# Altium footprint library C_1206.PcbLib: 1 footprints
Each footprint in its own frame and in the unit in brackets; x right, y up, seen from the top. Pads: shape width x height; smd on the part's side, far side on the other; paste and mask are expansions set on the pad; w line width, h text height; cw(c..) or ccw(c..) is an arc to the next point about the centre after c.
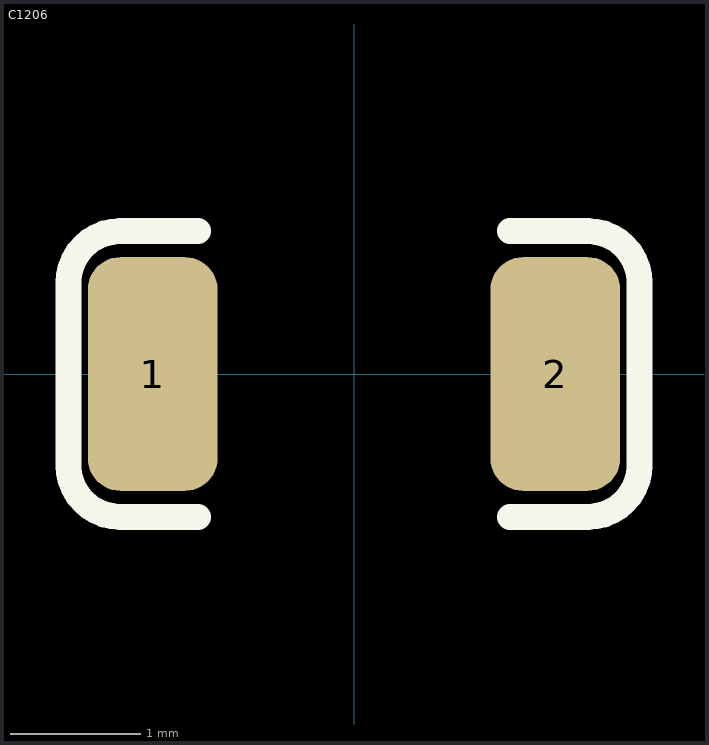
[diagram p0: the footprint, top view; thin cyan lines are the x and y axes]

## C1206 [mm]
pads (2):
  rrect50% 1x1.8 smd: 1(-1.55,0) 2(1.55,0)
Top Overlay:
  lines w0.2: -1.2,-1.1 -1.8,-1.1 cw(c-1.8,-0.7) -2.2,-0.7 -2.2,0.7 cw(c-1.8,0.7) -1.8,1.1 -1.2,1.1 ; 1.2,-1.1 1.8,-1.1 ccw(c1.8,-0.7) 2.2,-0.7 2.2,0.7 ccw(c1.8,0.7) 1.8,1.1 1.2,1.1
3D body "CAP1206.stp": height 1, standoff 0, extent -1.6,-0.8 1.6,0.8